# Altium schematic symbol library AD8603.SchLib: 1 symbol
Pins are listed as number, name and electrical type; pins without a type are passive.

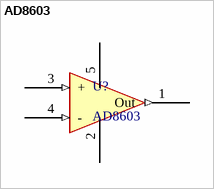
[diagram p0: symbol AD8603]

## AD8603
designator U?
Precision op-amp; farnell: 1651290
footprint SOT95P255X100-5N (SOT23, 5-Leads, Body 3.0x2.8mm (max), Pitch 0.95mm, IPC Medium Density)
pins: 1 Out (out), 2 V- (power), 3 + (in), 4 - (in), 5 V+ (power)